# Altium footprint library 541044533.PcbLib: 1 footprints
Each footprint in its own frame and in the unit in brackets; x right, y up, seen from the top. Pads: shape width x height; smd on the part's side, far side on the other; paste and mask are expansions set on the pad; w line width, h text height; cw(c..) or ccw(c..) is an arc to the next point about the centre after c.
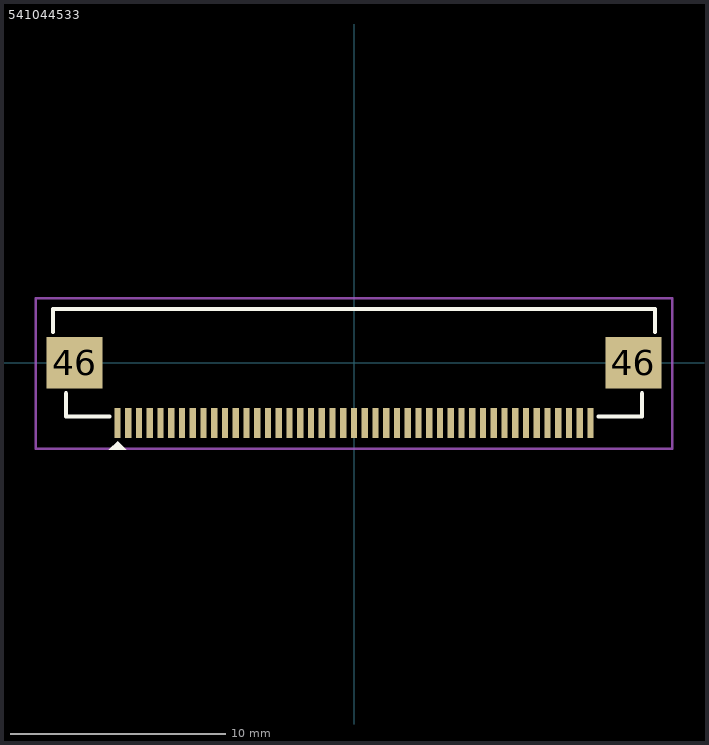
[diagram p0: the footprint, top view; thin cyan lines are the x and y axes]

## 541044533 [mm]
pads (47):
  rect 0.3x1.4 smd: 1(-11,-2.8) 2(-10.5,-2.8) 3(-10,-2.8) 4(-9.5,-2.8) 5(-9,-2.8) 6(-8.5,-2.8) 7(-8,-2.8) 8(-7.5,-2.8) 9(-7,-2.8) 10(-6.5,-2.8) 11(-6,-2.8) 12(-5.5,-2.8) 13(-5,-2.8) 14(-4.5,-2.8) 15(-4,-2.8) 16(-3.5,-2.8) 17(-3,-2.8) 18(-2.5,-2.8) 19(-2,-2.8) 20(-1.5,-2.8) 21(-1,-2.8) 22(-0.5,-2.8) 23(0,-2.8) 24(0.5,-2.8) 25(1,-2.8) 26(1.5,-2.8) 27(2,-2.8) 28(2.5,-2.8) 29(3,-2.8) 30(3.5,-2.8) 31(4,-2.8) 32(4.5,-2.8) 33(5,-2.8) 34(5.5,-2.8) 35(6,-2.8) 36(6.5,-2.8) 37(7,-2.8) 38(7.5,-2.8) 39(8,-2.8) 40(8.5,-2.8) 41(9,-2.8) 42(9.5,-2.8) 43(10,-2.8) 44(10.5,-2.8) 45(11,-2.8)
  rect 2.6x2.4 smd: 46(-13,0) 46(13,0)
Top Overlay:
  region: -10.6,-4.05 -11.4,-4.05 -11,-3.65
  lines w0.2: -14,1.425 -14,2.5 14,2.5 14,1.425 ; -13.4,-1.425 -13.4,-2.5 -11.375,-2.5 ; 11.375,-2.5 13.4,-2.5 13.4,-1.425
Top Courtyard:
  lines w0.1: -14.8,-4 -14.8,3 14.8,3 14.8,-4 -14.8,-4
3D body "541044533.stp": height 2.05, standoff 0, extent -14,-3.1 14,2.5